# EAGLE library part MBI5026* (library 0-macroblock)
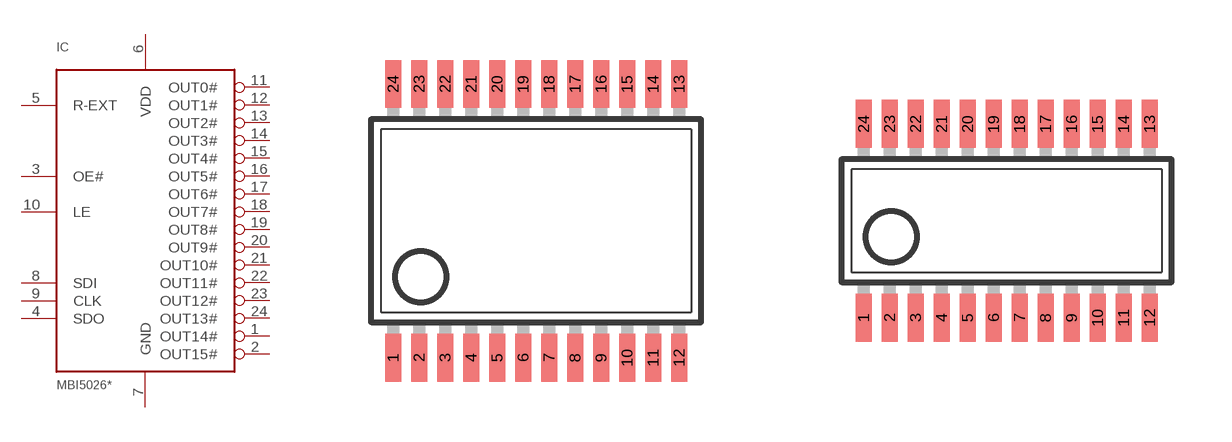
[diagram p0: symbol with the pads of SSOP24; footprints SSOP24, SSOP24-150]

Designator prefix IC

## MBI5026GFA  [SSOP24]
1  OUT14#
2  OUT15#
3  OE#
4  SDO
5  R-EXT
6  VDD  pwr
7  GND  pwr
8  SDI
9  CLK
10  LE
11  OUT0#
12  OUT1#
13  OUT2#
14  OUT3#
15  OUT4#
16  OUT5#
17  OUT6#
18  OUT7#
19  OUT8#
20  OUT9#
21  OUT10#
22  OUT11#
23  OUT12#
24  OUT13#

## MBI5026GP  [SSOP24-150]
1  GND  pwr
2  SDI
3  CLK
4  LE
5  OUT0#
6  OUT1#
7  OUT2#
8  OUT3#
9  OUT4#
10  OUT5#
11  OUT6#
12  OUT7#
13  OUT8#
14  OUT9#
15  OUT10#
16  OUT11#
17  OUT12#
18  OUT13#
19  OUT14#
20  OUT15#
21  OE#
22  SDO
23  R-EXT
24  VDD  pwr

## Footprint SSOP24 (pad centres in mm)
Small Shrink Outline Package SOT340-1 / JEDEC MO-150AG
smd 0.4 x 1.2: 1 -3.575,-3.42; 2 -2.925,-3.42; 3 -2.275,-3.42; 4 -1.625,-3.42; 5 -0.975,-3.42; 6 -0.325,-3.42; 7 0.325,-3.42; 8 0.975,-3.42; 9 1.625,-3.42; 10 2.275,-3.42; 11 2.925,-3.42; 12 3.575,-3.42; 13 3.575,3.42; 14 2.925,3.42; 15 2.275,3.42; 16 1.625,3.42; 17 0.975,3.42; 18 0.325,3.42; 19 -0.325,3.42; 20 -0.975,3.42; 21 -1.625,3.42; 22 -2.275,3.42; 23 -2.925,3.42; 24 -3.575,3.42

## Footprint SSOP24-150 (pad centres in mm)
smd 0.4 x 1.2: 1 -3.575,-2.42; 2 -2.925,-2.42; 3 -2.275,-2.42; 4 -1.625,-2.42; 5 -0.975,-2.42; 6 -0.325,-2.42; 7 0.325,-2.42; 8 0.975,-2.42; 9 1.625,-2.42; 10 2.275,-2.42; 11 2.925,-2.42; 12 3.575,-2.42; 13 3.575,2.42; 14 2.925,2.42; 15 2.275,2.42; 16 1.625,2.42; 17 0.975,2.42; 18 0.325,2.42; 19 -0.325,2.42; 20 -0.975,2.42; 21 -1.625,2.42; 22 -2.275,2.42; 23 -2.925,2.42; 24 -3.575,2.42